# Altium footprint library PWQFN-16.PcbLib: 1 footprints
Each footprint in its own frame and in the unit in brackets; x right, y up, seen from the top. Pads: shape width x height; smd on the part's side, far side on the other; paste and mask are expansions set on the pad; w line width, h text height; cw(c..) or ccw(c..) is an arc to the next point about the centre after c.
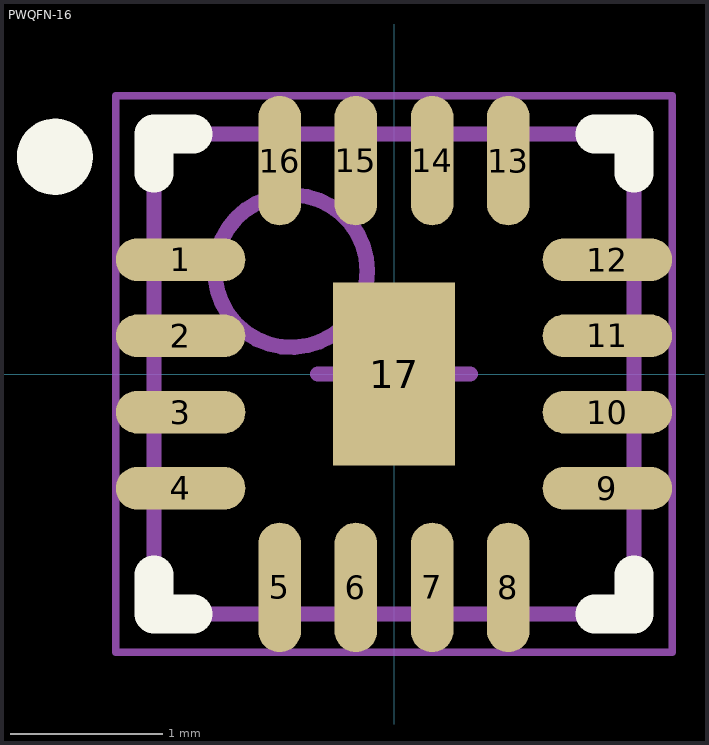
[diagram p0: the footprint, top view; thin cyan lines are the x and y axes]

## PWQFN-16 [mm] "PQFN, 16-Leads, Body 3,00x3,00mm, Pitch 0,50mm, Thermal Pad 0.8x1.2mm, IPC Medium Density"
height 0.8
pads (17):
  oval 0.85x0.28 smd: 1(-1.4,0.75) 2(-1.4,0.25) 3(-1.4,-0.25) 4(-1.4,-0.75) 9(1.4,-0.75) 10(1.4,-0.25) 11(1.4,0.25) 12(1.4,0.75)
  oval 0.28x0.85 smd: 5(-0.75,-1.4) 6(-0.25,-1.4) 7(0.25,-1.4) 8(0.75,-1.4) 13(0.75,1.4) 14(0.25,1.4) 15(-0.25,1.4) 16(-0.75,1.4)
  rect 0.8x1.2 smd: 17(0,0)
Top Overlay:
  circle w0.25: c-2.225,1.425 r0.125
  lines w0.254: -1.575,-1.317 -1.575,-1.575 -1.317,-1.575 ; -1.575,1.317 -1.575,1.575 -1.317,1.575 ; 1.317,-1.575 1.575,-1.575 1.575,-1.317 ; 1.317,1.575 1.575,1.575 1.575,1.317
Mechanical 13:
  circle w0.1: c-0.675,0.675 r0.5
  lines w0.1: -1.575,-1.575 -1.575,1.575 1.575,1.575 1.575,-1.575 -1.575,-1.575
Mechanical 15:
  lines w0.05: -1.825,-1.825 -1.825,1.825 1.825,1.825 1.825,-1.825 -1.825,-1.825
  lines w0.1: -0.5,0 0.5,0 ; 0,-0.5 0,0.5
3D body "PWQFN-16.step": height 0.8, standoff 0, extent -1.575,-1.575 1.575,1.575